# Altium footprint library MSOP-12_L4.0-W3.0-P0.65-LS4.9-BL-EP.PcbLib: 1 footprints
Each footprint in its own frame and in the unit in brackets; x right, y up, seen from the top. Pads: shape width x height; smd on the part's side, far side on the other; paste and mask are expansions set on the pad; w line width, h text height; cw(c..) or ccw(c..) is an arc to the next point about the centre after c.
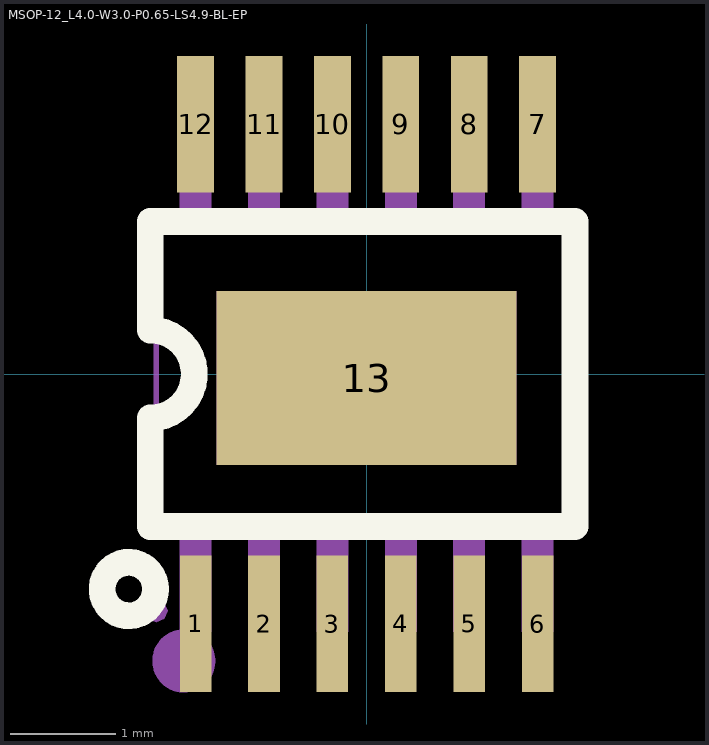
[diagram p0: the footprint, top view; thin cyan lines are the x and y axes]

## MSOP-12_L4.0-W3.0-P0.65-LS4.9-BL-EP [mm]
pads (13):
  rect 0.3x1.3 smd: 1(-1.625,-2.375) 2(-0.975,-2.375) 3(-0.325,-2.375) 4(0.325,-2.375) 5(0.975,-2.375) 6(1.625,-2.375)
  rect 0.35x1.3 smd: 7(1.625,2.375) 8(0.975,2.375) 9(0.325,2.375) 10(-0.325,2.375) 11(-0.975,2.375) 12(-1.625,2.375)
  rect 2.85x1.65 smd: 13(0,-0.038)
Top Overlay:
  circle w0.254: c-2.261,-2.045 r0.254
  lines w0.254: -2.057,-1.45 1.981,-1.45 1.981,1.45 -2.057,1.45 -2.057,0.419 cw(c-2.057,0) -2.057,-0.419 -2.057,-1.45
Mechanical 6:
  circle w0.3: c-1.737,-2.728 r0.15
Mechanical 15:
  region: -1.892,-2.25 -1.923,-2.173 -2,-2.142 -2.077,-2.173 -2.108,-2.25 -2.077,-2.326 -2,-2.358 -1.923,-2.326
  region: -1.425,0.787 1.425,0.787 1.425,-0.863 -1.425,-0.863
  region: -1.775,1.49 -1.775,1.93 -1.475,1.93 -1.475,1.49
  region: -1.775,1.92 -1.775,2.45 -1.475,2.45 -1.475,1.92
  region: -1.125,1.49 -1.125,1.93 -0.825,1.93 -0.825,1.49
  region: -1.125,1.92 -1.125,2.45 -0.825,2.45 -0.825,1.92
  region: -0.475,1.49 -0.475,1.93 -0.175,1.93 -0.175,1.49
  region: -0.475,1.92 -0.475,2.45 -0.175,2.45 -0.175,1.92
  region: 0.175,1.49 0.175,1.93 0.475,1.93 0.475,1.49
  region: 0.175,1.92 0.175,2.45 0.475,2.45 0.475,1.92
  region: 0.825,1.49 0.825,1.93 1.125,1.93 1.125,1.49
  region: 0.825,1.92 0.825,2.45 1.125,2.45 1.125,1.92
  region: 1.475,1.49 1.475,1.93 1.775,1.93 1.775,1.49
  region: 1.475,1.92 1.475,2.45 1.775,2.45 1.775,1.92
  region: -1.775,-1.93 -1.775,-1.49 -1.475,-1.49 -1.475,-1.93
  region: -1.775,-2.45 -1.775,-1.92 -1.475,-1.92 -1.475,-2.45
  region: -1.125,-1.93 -1.125,-1.49 -0.825,-1.49 -0.825,-1.93
  region: -1.125,-2.45 -1.125,-1.92 -0.825,-1.92 -0.825,-2.45
  region: -0.475,-1.93 -0.475,-1.49 -0.175,-1.49 -0.175,-1.93
  region: -0.475,-2.45 -0.475,-1.92 -0.175,-1.92 -0.175,-2.45
  region: 0.175,-1.93 0.175,-1.49 0.475,-1.49 0.475,-1.93
  region: 0.175,-2.45 0.175,-1.92 0.475,-1.92 0.475,-2.45
  region: 0.825,-1.93 0.825,-1.49 1.125,-1.49 1.125,-1.93
  region: 0.825,-2.45 0.825,-1.92 1.125,-1.92 1.125,-2.45
  region: 1.475,-1.93 1.475,-1.49 1.775,-1.49 1.775,-1.93
  region: 1.475,-2.45 1.475,-1.92 1.775,-1.92 1.775,-2.45
  lines w0.051: -2,-1.5 2,-1.5 2,1.5 -2,1.5 -2,-1.5